# EAGLE library part DSI-SOCKET-24P (library vikc-connector)
24 Position 0.4 mm Pitch Dual Row Board to Board Socket Narrow Pitch Connector
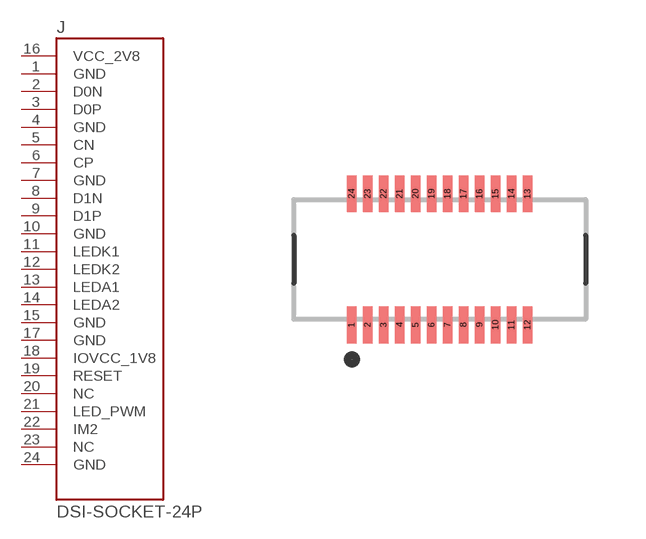
[diagram p8: symbol with the pads of AXT524124; footprint AXT524124]

Designator prefix J

## DSI-SOCKET-24P (AVAILABILITY: Unavailable; DESCRIPTION: 24 Position 0.4 mm Pitch Dual Row Board to Board Socket Narrow Pitch Connector; MF: Panasonic Electric; MP: AXT524124; PACKAGE: None; PRICE: None)  [AXT524124]
1  GND  pas
2  D0N  pas
3  D0P  pas
4  GND  pas
5  CN  pas
6  CP  pas
7  GND  pas
8  D1N  pas
9  D1P  pas
10  GND  pas
11  LEDK1  pas
12  LEDK2  pas
13  LEDA1  pas
14  LEDA2  pas
15  GND  pas
16  VCC_2V8  pas
17  GND  pas
18  IOVCC_1V8  pas
19  RESET  pas
20  NC  nc
21  LED_PWM  nc
22  IM2  nc
23  NC  nc
24  GND  pas

## Footprint AXT524124 (pad centres in mm)
smd 0.23 x 0.92: 1 -2.2,-1.64; 2 -1.8,-1.64; 3 -1.4,-1.64; 4 -1,-1.64; 5 -0.6,-1.64; 6 -0.2,-1.64; 7 0.2,-1.64; 8 0.6,-1.64; 9 1,-1.64; 10 1.4,-1.64; 11 1.8,-1.64; 12 2.2,-1.64; 13 2.2,1.64; 14 1.8,1.64; 15 1.4,1.64; 16 1,1.64; 17 0.6,1.64; 18 0.2,1.64; 19 -0.2,1.64; 20 -0.6,1.64; 21 -1,1.64; 22 -1.4,1.64; 23 -1.8,1.64; 24 -2.2,1.64